# Altium schematic symbol library ISO7741FQDBQRQ1.SchLib: 1 symbol
Pins are listed as number, name and electrical type; pins without a type are passive.

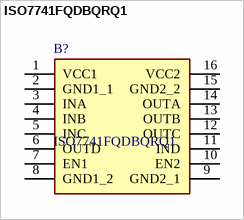
[diagram p0: symbol ISO7741FQDBQRQ1]

## ISO7741FQDBQRQ1
designator B?
Automotive, High Speed, Robust EMC Quad-Channel Digital Isolators; Manufacturer_Name: Texas Instruments; Geometry.Height: 1.75mm; Mouser Part Number: 595-ISO7741FQDBQRQ1; Mouser Price/Stock: https://www.mouser.co.uk/ProductDetail/Texas-Instruments/ISO7741FQDBQRQ1?qs=5aG0NVq1C4xioEZju0IsXg%3D%3D; Manufacturer_Part_Number: ISO7741FQDBQRQ1; Datasheet Link: http://www.ti.com/lit/gpn/iso7741-q1
footprint SOP64P600X175-16N
pins: 1 VCC1, 2 GND1_1, 3 INA, 4 INB, 5 INC, 6 OUTD, 7 EN1, 8 GND1_2, 9 GND2_1, 10 EN2, 11 IND, 12 OUTC, 13 OUTB, 14 OUTA, 15 GND2_2, 16 VCC2